# Altium schematic symbol library symbols.SchLib: 9 symbols
Pins are listed as number, name and electrical type; pins without a type are passive.

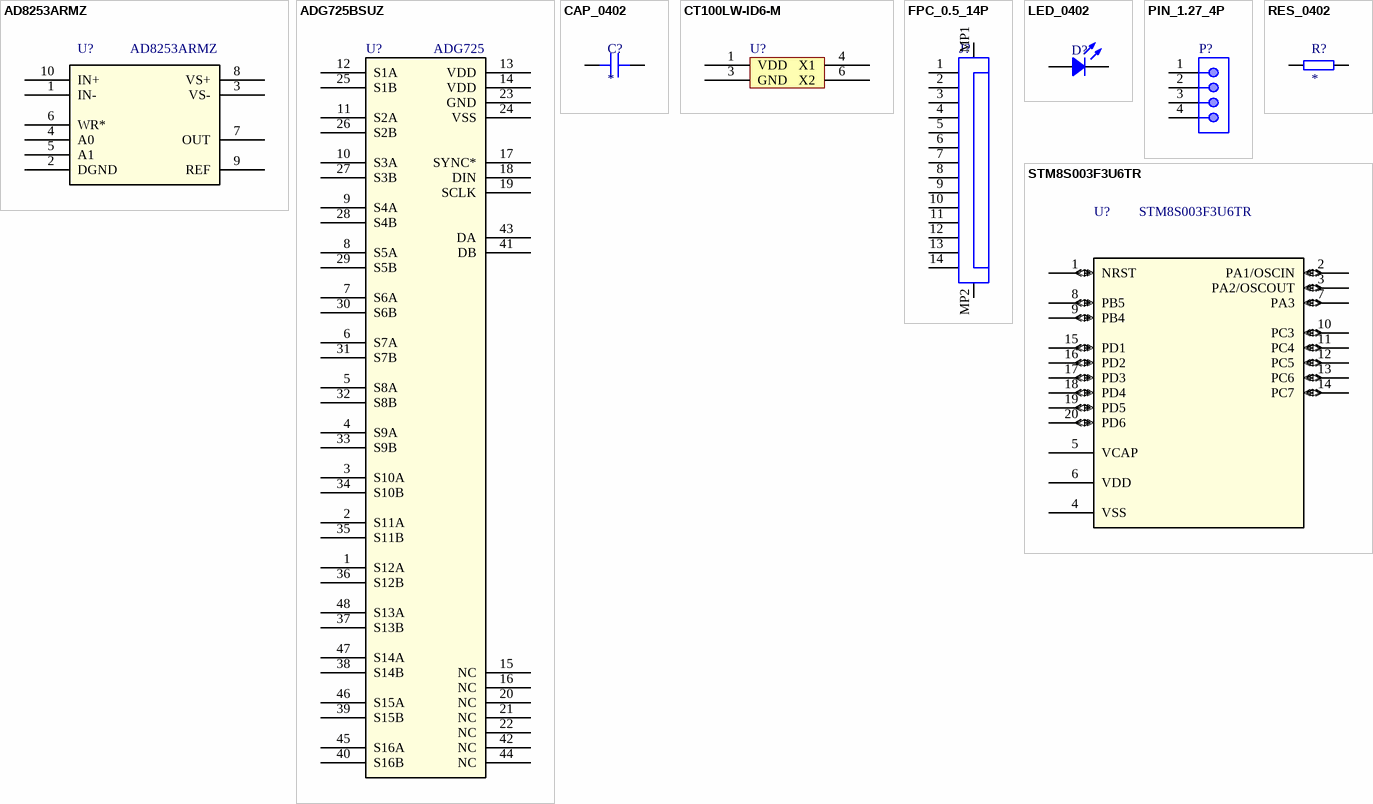
[diagram p0: symbols AD8253ARMZ to STM8S003F3U6TR]

## AD8253ARMZ
designator U?
10 MHz, G = 1, 10, 100, 1000 iCMOS® Programmable Gain Instrumentation Amplifier; Mfr_Name: Analog Devices Inc; Copyright: Copyright (C) 2023 Ultra Librarian. All rights reserved.; Manufacturer_Part_Number: AD8253ARMZ; RefDes: RefDes; Type: DEV
footprint RM_10_ADI
pins: 1 IN-, 2 DGND, 3 VS- (power), 4 A0, 5 A1, 6 WR*, 7 OUT, 8 VS+ (power), 9 REF, 10 IN+

## ADG725BSUZ
designator U?, comment ADG725
Differential 16-Channel, Serially Controlled 3.5 Ω 1.8 V to 5.5 V, ±2.5 V, Analog Multiplexer; Mfr_Name: Analog Devices Inc; Manufacturer_Part_Number: ADG725BSUZ; RefDes: RefDes; Type: DEV
footprint SU_48_ADI
pins: 1 S12A, 2 S11A, 3 S10A, 4 S9A, 5 S8A, 6 S7A, 7 S6A, 8 S5A, 9 S4A, 10 S3A, 11 S2A, 12 S1A, 13 VDD (power), 14 VDD (power), 15 NC, 16 NC, 17 SYNC*, 18 DIN, 19 SCLK, 20 NC, 21 NC, 22 NC, 23 GND, 24 VSS (power), 25 S1B, 26 S2B, 27 S3B, 28 S4B, 29 S5B, 30 S6B, 31 S7B, 32 S8B, 33 S9B, 34 S10B, 35 S11B, 36 S12B, 37 S13B, 38 S14B, 39 S15B, 40 S16B, 41 DB, 42 NC, 43 DA, 44 NC, 45 S16A, 46 S15A, 47 S14A, 48 S13A

## CAP_0402
designator C?
Capacitor SMD 0402; Voltage: 50V; Capacitance: *
footprint CAP_0402 (Chip Capacitor, 2-Leads, Body 1.02x0.51mm, IPC Medium Density)
pins: 1, 2

## CT100LW-ID6-M
designator U?, comment CT100  (value not drawn)
TMR Sensor, Linear, -40 to 85deg C; Manufacturer: Crocus Technology; Manufacturer Part Number: CT100LW-ID6; RoHS: Yes
footprint SON_6_CT100 (SON, 6-Leads, Body 1.50x1.50mm, Pitch 0.50mm, Thermal Pad 1.20x0.49mm, IPC Medium Density)
pins: 1 VDD (power), 3 GND, 4 X1, 6 X2

## FPC_0.5_14P
designator J?
FPC, Horizontal, pitch 0.5 mm, 14 pins
footprint FPC_0.5_14P
pins: 1, 2, 3, 4, 5, 6, 7, 8, 9, 10, 11, 12, 13, 14, MP1, MP2

## LED_0402
designator D?
LED SMD 0402
footprint LED_0402 (Chip Diode, 2-Leads, Body 1.00x0.50mm, IPC Medium Density)
pins: A, K

## PIN_1.27_4P
designator P?
footprint PIN_1.27_4P
pins: 1, 2, 3, 4

## RES_0402
designator R?
Resistor SMD 0402; Resistance: *
footprint RES_0402 (Chip Resistor, 2-Leads, Body 1.0x0.5mm, IPC Medium Density)
footprint RES_0402_RF (Chip Resistor, 2-Leads, Body 1.0x0.5mm, IPC High Density)
pins: 1, 2

## STM8S003F3U6TR
designator U?
No Description Available; Mfr_Name: STMicroelectronics; Copyright: Copyright (C) 2023 Ultra Librarian. All rights reserved.; Manufacturer_Part_Number: STM8S003F3U6TR; RefDes: RefDes; Type: Type
footprint UFQFPN20_3x3x0p6
pins: 1 NRST (io), 2 PA1/OSCIN (io), 3 PA2/OSCOUT (io), 4 VSS (power), 5 VCAP (power), 6 VDD (power), 7 PA3 (io), 8 PB5 (io), 9 PB4 (io), 10 PC3 (io), 11 PC4 (io), 12 PC5 (io), 13 PC6 (io), 14 PC7 (io), 15 PD1 (io), 16 PD2 (io), 17 PD3 (io), 18 PD4 (io), 19 PD5 (io), 20 PD6 (io)